# EAGLE library part TPS62051 (library df4iah_powersupply)
TPS62051 800-mA Synchronous Step-Down Converter: 3.3V 12μA Quiescent Current 2.7-V to 10-V Operating Input Voltage Range 100% Maximum Duty Cycle for Lowest Dropout
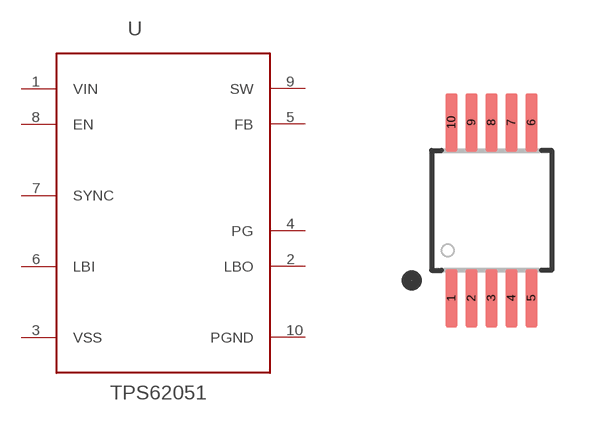
[diagram p3: symbol with the pads of S-PDSO-G10; footprint S-PDSO-G10]

Designator prefix U

## TPS62051  [S-PDSO-G10]
1  VIN  pwr
2  LBO  out
3  VSS  pas
4  PG  out
5  FB  pas
6  LBI  in
7  SYNC  in
8  EN  in
9  SW  pas
10  PGND  pas

## Footprint S-PDSO-G10 (pad centres in mm)
DGS (S-PDSO-G10) 3.0 mm body size 4.9 mm outer size 0.5 mm pitch
smd 0.3 x 1.45: 1 -1,-2.2; 2 -0.5,-2.2; 3 0,-2.2; 4 0.5,-2.2; 5 1,-2.2; 6 1,2.2; 7 0.5,2.2; 8 0,2.2; 9 -0.5,2.2; 10 -1,2.2